# Altium footprint library FBK_PcbLib.PcbLib: 17 footprints (part 1 of 2)
Each footprint in its own frame and in the unit in brackets; x right, y up, seen from the top. Pads: shape width x height; smd on the part's side, far side on the other; paste and mask are expansions set on the pad; w line width, h text height; cw(c..) or ccw(c..) is an arc to the next point about the centre after c.
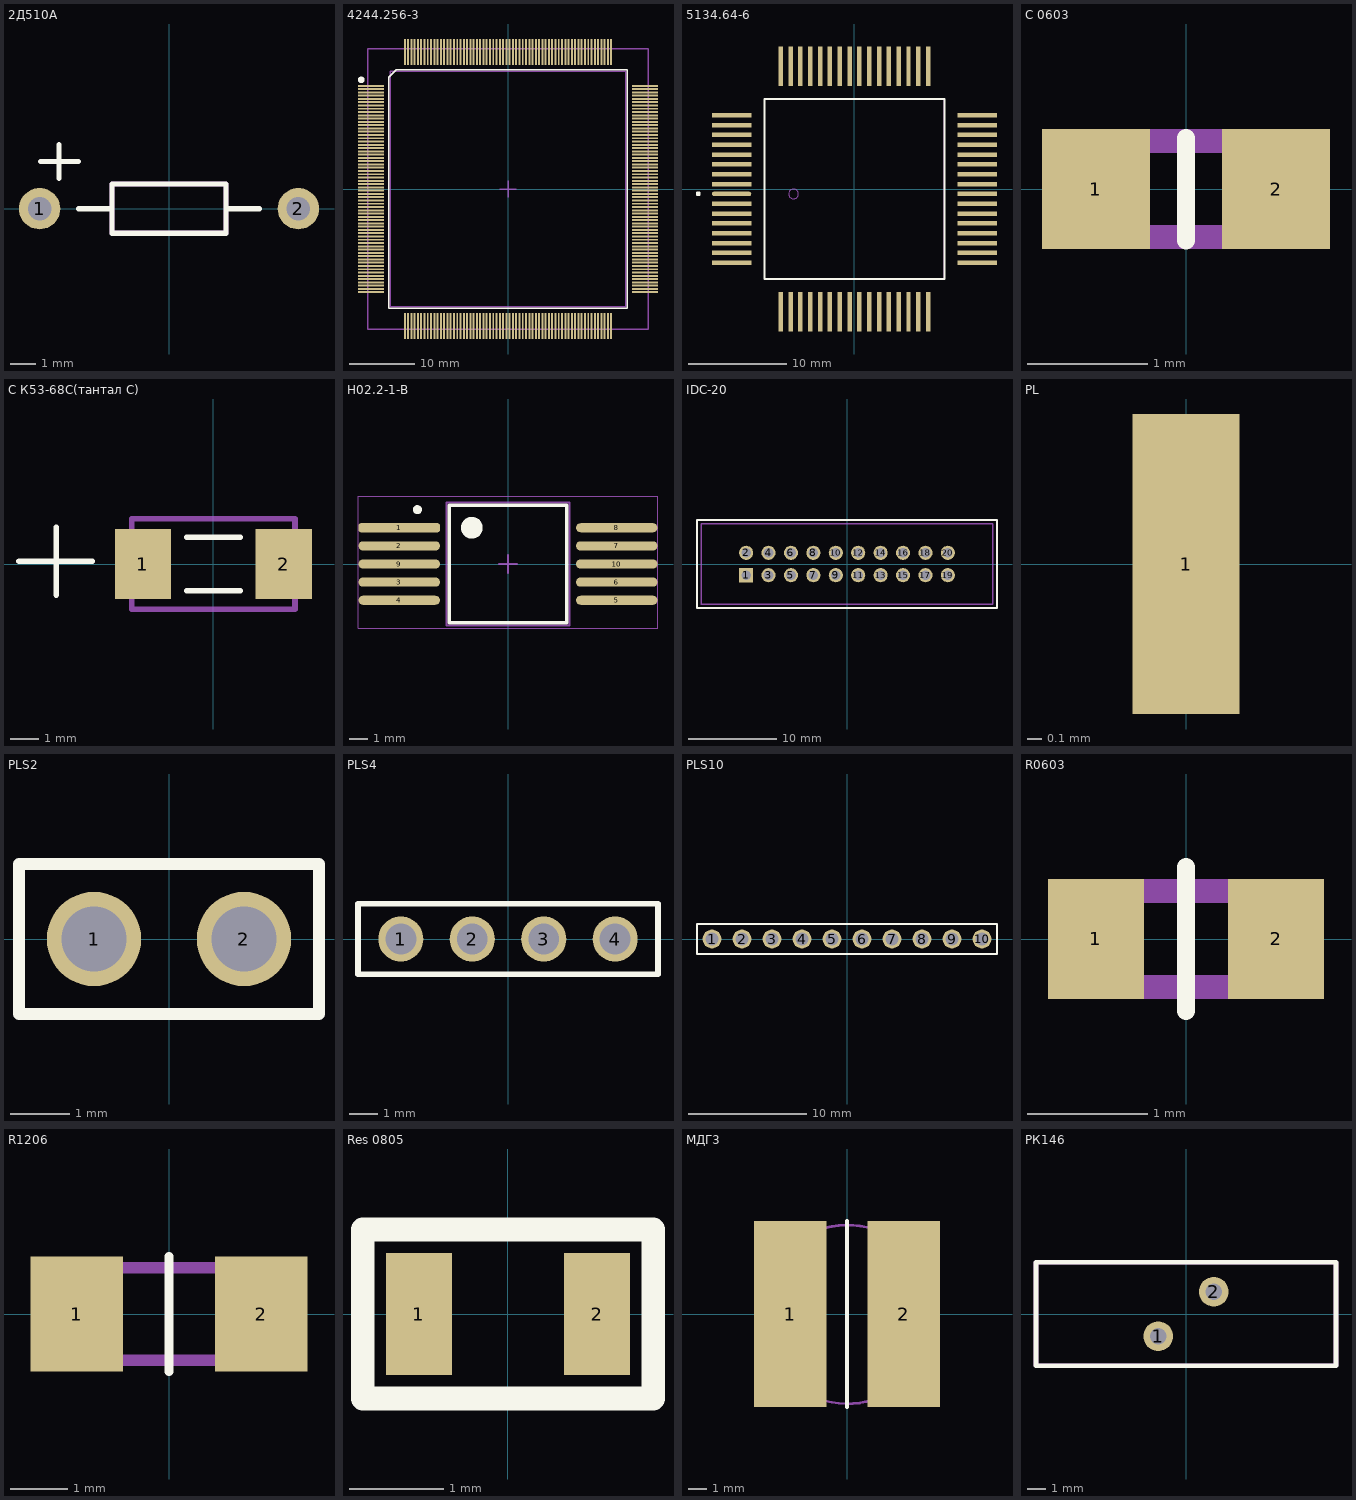
[diagram p0: the footprints below, top view; thin cyan lines are the x and y axes]

## 2Д510А [mm]
pads (2):
  round 1.6 hole 0.9: 1(-5,0) 2(5,0)
Top Overlay:
  lines w0.2: -4.975,1.825 -3.5,1.825 ; -4.25,1.175 -4.25,2.475 ; -3.5,0 -2.2,0 ; 2.2,0 3.5,0 ; -2.2,-0.95 2.2,-0.95 2.2,0.95 -2.2,0.95 -2.2,-0.95
Mechanical 1:
  lines w0.2: -2.2,-0.95 2.2,-0.95 2.2,0.95 -2.2,0.95 -2.2,-0.95
3D body: height 1.6, standoff 0, extent -2.2,-0.8 2.2,0.8

## 4244.256-3 [mm] "44ж"
height 3.3
pads (256):
  rect 4x0.3 smd: 1(-20.9,15.75) 2(-20.9,15.25) 3(-20.9,14.75) 4(-20.9,14.25) 5(-20.9,13.75) 6(-20.9,13.25) 7(-20.9,12.75) 8(-20.9,12.25) 9(-20.9,11.75) 10(-20.9,11.25) 11(-20.9,10.75) 12(-20.9,10.25) 13(-20.9,9.75) 14(-20.9,9.25) 15(-20.9,8.75) 16(-20.9,8.25) 17(-20.9,7.75) 18(-20.9,7.25) 19(-20.9,6.75) 20(-20.9,6.25) 21(-20.9,5.75) 22(-20.9,5.25) 23(-20.9,4.75) 24(-20.9,4.25) 25(-20.9,3.75) 26(-20.9,3.25) 27(-20.9,2.75) 28(-20.9,2.25) 29(-20.9,1.75) 30(-20.9,1.25) 31(-20.9,0.75) 32(-20.9,0.25) 33(-20.9,-0.25) 34(-20.9,-0.75) 35(-20.9,-1.25) 36(-20.9,-1.75) 37(-20.9,-2.25) 38(-20.9,-2.75) 39(-20.9,-3.25) 40(-20.9,-3.75) 41(-20.9,-4.25) 42(-20.9,-4.75) 43(-20.9,-5.25) 44(-20.9,-5.75) 45(-20.9,-6.25) 46(-20.9,-6.75) 47(-20.9,-7.25) 48(-20.9,-7.75) 49(-20.9,-8.25) 50(-20.9,-8.75) 51(-20.9,-9.25) 52(-20.9,-9.75) 53(-20.9,-10.25) 54(-20.9,-10.75) 55(-20.9,-11.25) 56(-20.9,-11.75) 57(-20.9,-12.25) 58(-20.9,-12.75) 59(-20.9,-13.25) 60(-20.9,-13.75) 61(-20.9,-14.25) 62(-20.9,-14.75) 63(-20.9,-15.25) 64(-20.9,-15.75) 129(20.9,-15.75) 130(20.9,-15.25) 131(20.9,-14.75) 132(20.9,-14.25) 133(20.9,-13.75) 134(20.9,-13.25) 135(20.9,-12.75) 136(20.9,-12.25) 137(20.9,-11.75) 138(20.9,-11.25) 139(20.9,-10.75) 140(20.9,-10.25) 141(20.9,-9.75) 142(20.9,-9.25) 143(20.9,-8.75) 144(20.9,-8.25) 145(20.9,-7.75) 146(20.9,-7.25) 147(20.9,-6.75) 148(20.9,-6.25) 149(20.9,-5.75) 150(20.9,-5.25) 151(20.9,-4.75) 152(20.9,-4.25) 153(20.9,-3.75) 154(20.9,-3.25) 155(20.9,-2.75) 156(20.9,-2.25) 157(20.9,-1.75) 158(20.9,-1.25) 159(20.9,-0.75) 160(20.9,-0.25) 161(20.9,0.25) 162(20.9,0.75) 163(20.9,1.25) 164(20.9,1.75) 165(20.9,2.25) 166(20.9,2.75) 167(20.9,3.25) 168(20.9,3.75) 169(20.9,4.25) 170(20.9,4.75) 171(20.9,5.25) 172(20.9,5.75) 173(20.9,6.25) 174(20.9,6.75) 175(20.9,7.25) 176(20.9,7.75) 177(20.9,8.25) 178(20.9,8.75) 179(20.9,9.25) 180(20.9,9.75) 181(20.9,10.25) 182(20.9,10.75) 183(20.9,11.25) 184(20.9,11.75) 185(20.9,12.25) 186(20.9,12.75) 187(20.9,13.25) 188(20.9,13.75) 189(20.9,14.25) 190(20.9,14.75) 191(20.9,15.25) 192(20.9,15.75)
  rect 0.3x4 smd: 65(-15.75,-20.9) 66(-15.25,-20.9) 67(-14.75,-20.9) 68(-14.25,-20.9) 69(-13.75,-20.9) 70(-13.25,-20.9) 71(-12.75,-20.9) 72(-12.25,-20.9) 73(-11.75,-20.9) 74(-11.25,-20.9) 75(-10.75,-20.9) 76(-10.25,-20.9) 77(-9.75,-20.9) 78(-9.25,-20.9) 79(-8.75,-20.9) 80(-8.25,-20.9) 81(-7.75,-20.9) 82(-7.25,-20.9) 83(-6.75,-20.9) 84(-6.25,-20.9) 85(-5.75,-20.9) 86(-5.25,-20.9) 87(-4.75,-20.9) 88(-4.25,-20.9) 89(-3.75,-20.9) 90(-3.25,-20.9) 91(-2.75,-20.9) 92(-2.25,-20.9) 93(-1.75,-20.9) 94(-1.25,-20.9) 95(-0.75,-20.9) 96(-0.25,-20.9) 97(0.25,-20.9) 98(0.75,-20.9) 99(1.25,-20.9) 100(1.75,-20.9) 101(2.25,-20.9) 102(2.75,-20.9) 103(3.25,-20.9) 104(3.75,-20.9) 105(4.25,-20.9) 106(4.75,-20.9) 107(5.25,-20.9) 108(5.75,-20.9) 109(6.25,-20.9) 110(6.75,-20.9) 111(7.25,-20.9) 112(7.75,-20.9) 113(8.25,-20.9) 114(8.75,-20.9) 115(9.25,-20.9) 116(9.75,-20.9) 117(10.25,-20.9) 118(10.75,-20.9) 119(11.25,-20.9) 120(11.75,-20.9) 121(12.25,-20.9) 122(12.75,-20.9) 123(13.25,-20.9) 124(13.75,-20.9) 125(14.25,-20.9) 126(14.75,-20.9) 127(15.25,-20.9) 128(15.75,-20.9) 193(15.75,20.9) 194(15.25,20.9) 195(14.75,20.9) 196(14.25,20.9) 197(13.75,20.9) 198(13.25,20.9) 199(12.75,20.9) 200(12.25,20.9) 201(11.75,20.9) 202(11.25,20.9) 203(10.75,20.9) 204(10.25,20.9) 205(9.75,20.9) 206(9.25,20.9) 207(8.75,20.9) 208(8.25,20.9) 209(7.75,20.9) 210(7.25,20.9) 211(6.75,20.9) 212(6.25,20.9) 213(5.75,20.9) 214(5.25,20.9) 215(4.75,20.9) 216(4.25,20.9) 217(3.75,20.9) 218(3.25,20.9) 219(2.75,20.9) 220(2.25,20.9) 221(1.75,20.9) 222(1.25,20.9) 223(0.75,20.9) 224(0.25,20.9) 225(-0.25,20.9) 226(-0.75,20.9) 227(-1.25,20.9) 228(-1.75,20.9) 229(-2.25,20.9) 230(-2.75,20.9) 231(-3.25,20.9) 232(-3.75,20.9) 233(-4.25,20.9) 234(-4.75,20.9) 235(-5.25,20.9) 236(-5.75,20.9) 237(-6.25,20.9) 238(-6.75,20.9) 239(-7.25,20.9) 240(-7.75,20.9) 241(-8.25,20.9) 242(-8.75,20.9) 243(-9.25,20.9) 244(-9.75,20.9) 245(-10.25,20.9) 246(-10.75,20.9) 247(-11.25,20.9) 248(-11.75,20.9) 249(-12.25,20.9) 250(-12.75,20.9) 251(-13.25,20.9) 252(-13.75,20.9) 253(-14.25,20.9) 254(-14.75,20.9) 255(-15.25,20.9) 256(-15.75,20.9)
Top Overlay:
  circle w0.6: c-22.4,16.65 r0.2
  lines w0.2: -18.2,-18.2 -18.2,17.05 -17.05,18.2 18.2,18.2 18.2,-18.2 -18.2,-18.2
Mechanical 13:
  lines w0.2: -21.4,-21.4 21.4,-21.4 21.4,21.4 -21.4,21.4 -21.4,-21.4
Mechanical 15:
  lines w0.2: -1.27,0 1.27,0 ; 0,-1.27 0,1.27 ; -18,-18 -18,18 18,18 18,-18 -18,-18
3D body "4244.256-3.STEP": height 3.45, standoff -0.01, extent -21.401,-21.401 21.401,21.401

## 5134.64-6 [mm]
height 3.4
pads (64):
  oval 4x0.45 smd: 1(-12.5,-0.5)
  rect 4x0.45 smd: 2(-12.5,-1.5) 3(-12.5,-2.5) 4(-12.5,-3.5) 5(-12.5,-4.5) 6(-12.5,-5.5) 7(-12.5,-6.5) 8(-12.5,-7.5) 25(12.5,-7.5) 26(12.5,-6.5) 27(12.5,-5.5) 28(12.5,-4.5) 29(12.5,-3.5) 30(12.5,-2.5) 31(12.5,-1.5) 32(12.5,-0.5) 33(12.5,0.5) 34(12.5,1.5) 35(12.5,2.5) 36(12.5,3.5) 37(12.5,4.5) 38(12.5,5.5) 39(12.5,6.5) 40(12.5,7.5) 57(-12.5,7.5) 58(-12.5,6.5) 59(-12.5,5.5) 60(-12.5,4.5) 61(-12.5,3.5) 62(-12.5,2.5) 63(-12.5,1.5) 64(-12.5,0.5)
  rect 0.45x4 smd: 9(-7.5,-12.5) 10(-6.5,-12.5) 11(-5.5,-12.5) 12(-4.5,-12.5) 13(-3.5,-12.5) 15(-1.5,-12.5) 16(-0.5,-12.5) 17(0.5,-12.5) 18(1.5,-12.5) 19(2.5,-12.5) 20(3.5,-12.5) 21(4.5,-12.5) 22(5.5,-12.5) 23(6.5,-12.5) 24(7.5,-12.5) 41(7.5,12.5) 42(6.5,12.5) 43(5.5,12.5) 44(4.5,12.5) 45(3.5,12.5) 46(2.5,12.5) 47(1.5,12.5) 48(0.5,12.5) 49(-0.5,12.5) 50(-1.5,12.5) 51(-2.5,12.5) 52(-3.5,12.5) 53(-4.5,12.5) 54(-5.5,12.5) 55(-6.5,12.5) 56(-7.5,12.5)
  rect 0.45x4 smd paste+0: 14(-2.5,-12.5)
Top Overlay:
  circle w0.25: c-15.895,-0.485 r0.125
  lines w0.2: -9.15,-9.15 9.15,-9.15 9.15,9.15 -9.15,9.15 -9.15,-9.15
Mechanical 1:
  circle w0.1: c-6.2,-0.5 r0.5
  lines w0.1: -9.15,-9.15 9.15,-9.15 9.15,9.15 -9.15,9.15 -9.15,-9.15
3D body: height 3.4, standoff 0.1, extent -9.15,-9.15 9.15,9.15

## C 0603 [mm]
pads (2):
  rect 0.9x1 smd: 1(-0.75,0) 2(0.75,0)
Top Overlay:
  lines w0.15: 0,-0.43 0,0.425
Mechanical 1:
  lines w0.2: -0.8,-0.4 0.8,-0.4 0.8,0.4 -0.8,0.4 -0.8,-0.4
3D body: height 0.8, standoff 0, extent -0.9,-0.5 0.9,0.5

## C К53-68C(тантал С) [mm]
pads (2):
  rect 2x2.5 smd: 1(-2.5,0) 2(2.5,0)
Top Overlay:
  lines w0.2: -6.9,0.1 -4.3,0.1 ; -5.575,-1.1 -5.575,1.3 ; -0.95,-0.95 0.95,-0.95 ; -0.95,0.95 0.95,0.95
Mechanical 1:
  lines w0.2: -2.9,-1 -2.9,-1.6 2.9,-1.6 2.9,-1 ; -2.9,1 -2.9,1.6 2.9,1.6 2.9,1 ; -3.15,-1 -1.85,-1 -1.85,1 -3.15,1 -3.15,-1 ; 1.85,-1 1.85,1 3.15,1 3.15,-1 1.85,-1
3D body: height 2.5, standoff 0, extent -2.899,-1.599 2.899,1.599
3D body: height 2, standoff 0, extent 1.851,-0.999 3.149,0.999
3D body: height 2, standoff 0, extent -3.149,-0.999 -1.851,0.999

## H02.2-1-B [mm]
height 2.9
pads (10):
  rrect50% 4.5x0.5 smd: 1(-6,2)
  oval 4.5x0.5 smd: 2(-6,1) 3(-6,-1) 4(-6,-2) 5(6,-2) 6(6,-1) 7(6,1) 8(6,2) 9(-6,0) 10(6,0)
Top Overlay:
  circle w0.25: c-5,3 r0.125
  circle w0.6: c-2,2 r0.3
  lines w0.2: -3.25,-3.25 3.25,-3.25 3.25,3.25 -3.25,3.25 -3.25,-3.25
Mechanical 13:
  circle w0.1: c-2,2 r0.5
  lines w0.1: -3.4,-3.4 -3.4,3.4 3.4,3.4 3.4,-3.4 -3.4,-3.4
Mechanical 15:
  lines w0.05: -8.275,-3.55 -8.275,3.75 8.275,3.75 8.275,-3.55 -8.275,-3.55
  lines w0.1: -0.5,0 0.5,0 ; 0,-0.5 0,0.5
3D body "H02.2-1-B.step": height 2.9, standoff 0, extent -7.5,-3.3 7.7,3.5

## IDC-20 [mm]
pads (20):
  rect 1.6x1.6 hole 1.1: 1(-11.43,-1.27)
  round 1.6 hole 1.1: 2(-11.43,1.27) 3(-8.89,-1.27) 4(-8.89,1.27) 5(-6.35,-1.27) 6(-6.35,1.27) 7(-3.81,-1.27) 8(-3.81,1.27) 9(-1.27,-1.27) 10(-1.27,1.27) 11(1.27,-1.27) 12(1.27,1.27) 13(3.81,-1.27) 14(3.81,1.27) 15(6.35,-1.27) 16(6.35,1.27) 17(8.89,-1.27) 18(8.89,1.27) 19(11.43,-1.27) 20(11.43,1.27)
Top Overlay:
  lines w0.2: -17,-5 -17,5 17,5 17,-5 -17,-5
Mechanical 1:
  lines w0.2: -16.52,-4.545 -16.525,-4.55 ; -16.525,-4.55 16.525,-4.55 16.525,4.55 -16.525,4.55 -16.525,-4.55 ; -16.525,-4.55 -16.525,-4.55
3D body: height 9.1, standoff 0.1, extent -16.525,-4.55 16.525,4.55

## PL [mm]
pads (1):
  rect 0.75x2.1 smd: 1(0,0)

## PLS2 [mm]
pads (2):
  round 1.6 hole 1.1: 1(-1.27,0) 2(1.27,0)
Top Overlay:
  lines w0.2: -2.54,-1.27 -2.54,1.27 2.54,1.27 2.54,-1.27 -2.54,-1.27

## PLS4 [mm]
pads (4):
  round 1.6 hole 1.1: 1(-3.81,0) 2(-1.27,0) 3(1.27,0) 4(3.81,0)
Top Overlay:
  lines w0.2: -5.33,-1.25 -5.33,1.25 5.33,1.25 5.33,-1.25 -5.33,-1.25

## PLS10 [mm]
pads (10):
  round 1.6 hole 1.1: 1(-11.43,0) 2(-8.89,0) 3(-6.35,0) 4(-3.81,0) 5(-1.27,0) 6(1.27,0) 7(3.81,0) 8(6.35,0) 9(8.89,0) 10(11.43,0)
Top Overlay:
  lines w0.2: -12.7,-1.27 -12.7,1.27 12.7,1.27 12.7,-1.27 -12.7,-1.27

## R0603 [mm]
pads (2):
  rect 0.8x1 smd: 1(-0.75,0) 2(0.75,0)
Top Overlay:
  lines w0.15: 0,-0.6 0,0.6
Mechanical 1:
  lines w0.2: -0.8,-0.4 -0.8,0.4 0.8,0.4 0.8,-0.4 -0.8,-0.4
3D body: height 0.4, standoff 0, extent -0.9,-0.5 0.9,0.5

## R1206 [mm]
pads (2):
  rect 1.6x2 smd: 1(-1.6,0) 2(1.6,0)
Top Overlay:
  lines w0.15: 0,-1 0,1
Mechanical 1:
  lines w0.2: -1.6,-0.8 -1.6,0.8 1.6,0.8 1.6,-0.8 -1.6,-0.8
3D body: height 0.7, standoff 0, extent -1.7,-0.9 1.7,0.9

## Res 0805 [mm]
pads (2):
  rect 0.7x1.3 smd: 1(-0.95,0) 2(0.95,0)
Top Overlay:
  lines w0.254: -1.55,-0.9 1.55,-0.9 1.55,0.9 -1.55,0.9 -1.55,-0.9

## МДГ3 [mm]
pads (2):
  rect 3.85x9.9 smd: 1(-3.025,0) 2(3.025,0)
Top Overlay:
  lines w0.2: 0,-4.95 0,4.95
Mechanical 1:
  circle w0.15: c0.03,-0.02 r4.75
3D body: height 1.5, standoff -0.3, extent -0.035,-0.005 -0.035,-0.005
3D body: height 6.3, standoff 0, extent -4.749,-4.749 4.749,4.749

## РК146 [mm]
pads (2):
  round 1.6 hole 0.9: 1(-1.5,-1.2) 2(1.5,1.2)
Top Overlay:
  lines w0.254: -8.1,-2.8 8.1,-2.8 8.1,2.8 -8.1,2.8 -8.1,-2.8
Mechanical 1:
  lines w0.254: -8.1,-2.8 8.1,-2.8 8.1,2.8 -8.1,2.8 -8.1,-2.8
3D body: height 3.4, standoff 0.1, extent -8.1,-2.8 8.1,2.8